# EAGLE library part PINHD-8 (library m_connector)
8 Pin Header
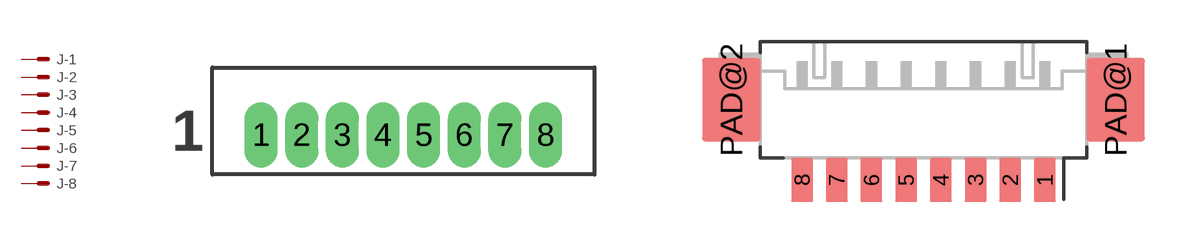
[diagram p13: symbol with the pads of MOLEX_53047-0810; footprints MOLEX_53047-0810, MOLEX_53261-0871]

Designator prefix J; gates -1=M -2=M -3=M -4=M -5=M -6=M -7=M -8=M

## PINHD-8MOLEX-PICOBLADE (MANUF: Molex; PARTNUM: 53047-0810)  [MOLEX_53047-0810]
1  -1:S  pas
2  -2:S  pas
3  -3:S  pas
4  -4:S  pas
5  -5:S  pas
6  -6:S  pas
7  -7:S  pas
8  -8:S  pas

## PINHD-8MOLEX-PICOBLADE-SMT-RIGHT_ANGLE (MANUF: Molex; PARTNUM: 53261-0871)  [MOLEX_53261-0871]
Pads as for MOLEX_53047-0810

## PINHD-8MOLEX-PICOBLADE_SMT_VERTICAL (MANUF: Molex; PARTNUM: 53398-0871)  [MOLEX_53398-0871]
Pads as for MOLEX_53047-0810

## PINHD-8DMCV_0,5/4-G1-2,54_SMD (MANUF: Phoenix; PARTNUM: DMCV 0,5/ 4-G1-2,54 SMD R32)  [PHOENIX_DMCV_0,5/4-G1-2,54]
P$1  -1:S  pas
P$2  -2:S  pas
P$3  -3:S  pas
P$4  -4:S  pas
P$5  -5:S  pas
P$6  -6:S  pas
P$7  -7:S  pas
P$8  -8:S  pas

## PINHD-8PTSM_0,5/8-HV-2,5-SMD (MANUF: Phoenix; PARTNUM: 1778751)  [PHOENIX_PTSM_0,5/8-HV-2,5-SMD]
Pads as for MOLEX_53047-0810

## PINHD-8PTSM_0,5/8-HV-2,5-SMD_NO_HOLE (MANUF: Phoenix; PARTNUM: 1778751)  [PHOENIX_PTSM_0,5/8-HV-2,5-SMD_NO_HOLE]
Pads as for MOLEX_53047-0810

## Footprint MOLEX_53047-0810 (pad centres in mm)
Molex 53047 Series, 1.25mm Pitch, 8 Conductor Molex 1.25mm pitch through hole connector. Pre tinned phosphor bronze pins, mates with 51021 series.
drill 0.5 long: 1 -4.375,0; 2 -3.125,0; 3 -1.875,0; 4 -0.625,0; 5 0.625,0; 6 1.875,0; 7 3.125,0; 8 4.375,0

## Footprint MOLEX_53261-0871 (pad centres in mm)
Molex 53261 Series PicoBlade, 1.25mm Pitch, Right Angle, SMT, 8 Conductor Molex 1.25mm pitch right angle SMT connector. Pre tinned phosphor bronze pins, mates with 51021 series.
smd 0.8 x 1.6: 1 4.375,-0.8; 2 3.125,-0.8; 3 1.875,-0.8; 4 0.625,-0.8; 5 -0.625,-0.8; 6 -1.875,-0.8; 7 -3.125,-0.8; 8 -4.375,-0.8
smd 2.1 x 3: PAD@1 6.925,2.1; PAD@2 -6.925,2.1

## Footprint MOLEX_53398-0871 (pad centres in mm)
Molex 53398 Series PicoBlade, 1.25mm Pitch, Vertical, SMT, 8 Conductor Molex 1.25mm pitch vertical SMT connector. Pre tinned phosphor bronze pins, mates with 51021 series.
smd 0.8 x 1.3: 1 4.375,-0.65; 2 3.125,-0.65; 3 1.875,-0.65; 4 0.625,-0.65; 5 -0.625,-0.65; 6 -1.875,-0.65; 7 -3.125,-0.65; 8 -4.375,-0.65
smd 2.1 x 3: PAD@1 6.925,2.1; PAD@2 -6.925,2.1

## Footprint PHOENIX_DMCV_0,5/4-G1-2,54 (pad centres in mm)
Phoenix Contact DMCV 0,5/ 4-G1-2,54 SMD R32 - PCB header Based on footprint data from Phoenix Contact online catalog, part number 1845195 <https://www.phoenixcontact.com/us/products/1845195> Added 2025-01-17
smd 1.2 x 2.85: P$1 -3.81,2.095; P$2 -1.27,2.095; P$3 1.27,2.095; P$4 3.81,2.095; P$6 -1.27,-2.095; P$7 1.27,-2.095
drill 1.2: P$5 -3.81,-1.27; P$8 3.81,-1.27

## Footprint PHOENIX_PTSM_0,5/8-HV-2,5-SMD (pad centres in mm)
Phoenix PTSM 0,5/ 8-HV-2,5-SMD WH R44 PCB Header
smd 1.2 x 4.4: 1 -8.75,-2.7; 2 -6.25,-2.7; 3 -3.75,-2.7; 4 -1.25,-2.7; 5 1.25,-2.7; 6 3.75,-2.7; 7 6.25,-2.7; 8 8.75,-2.7
smd 2.2 x 5.6: PAD@1 -12.05,0; PAD@2 12.05,0
hole 1 at -10.15,-2.1
hole 1 at 10.15,-2.1

## Footprint PHOENIX_PTSM_0,5/8-HV-2,5-SMD_NO_HOLE (pad centres in mm)
Phoenix PTSM 0,5/ 8-HV-2,5-SMD WH R44 PCB Header without alignment holes
smd 1.2 x 4.4: 1 -8.75,-2.7; 2 -6.25,-2.7; 3 -3.75,-2.7; 4 -1.25,-2.7; 5 1.25,-2.7; 6 3.75,-2.7; 7 6.25,-2.7; 8 8.75,-2.7
smd 2.2 x 5.6: PAD@1 -12.05,0; PAD@2 12.05,0
hole 1 at -10.15,-2.1
hole 1 at 10.15,-2.1